# Altium schematic symbol library IntCircuts.SchLib: 19 symbols
Pins are listed as number, name and electrical type; pins without a type are passive.

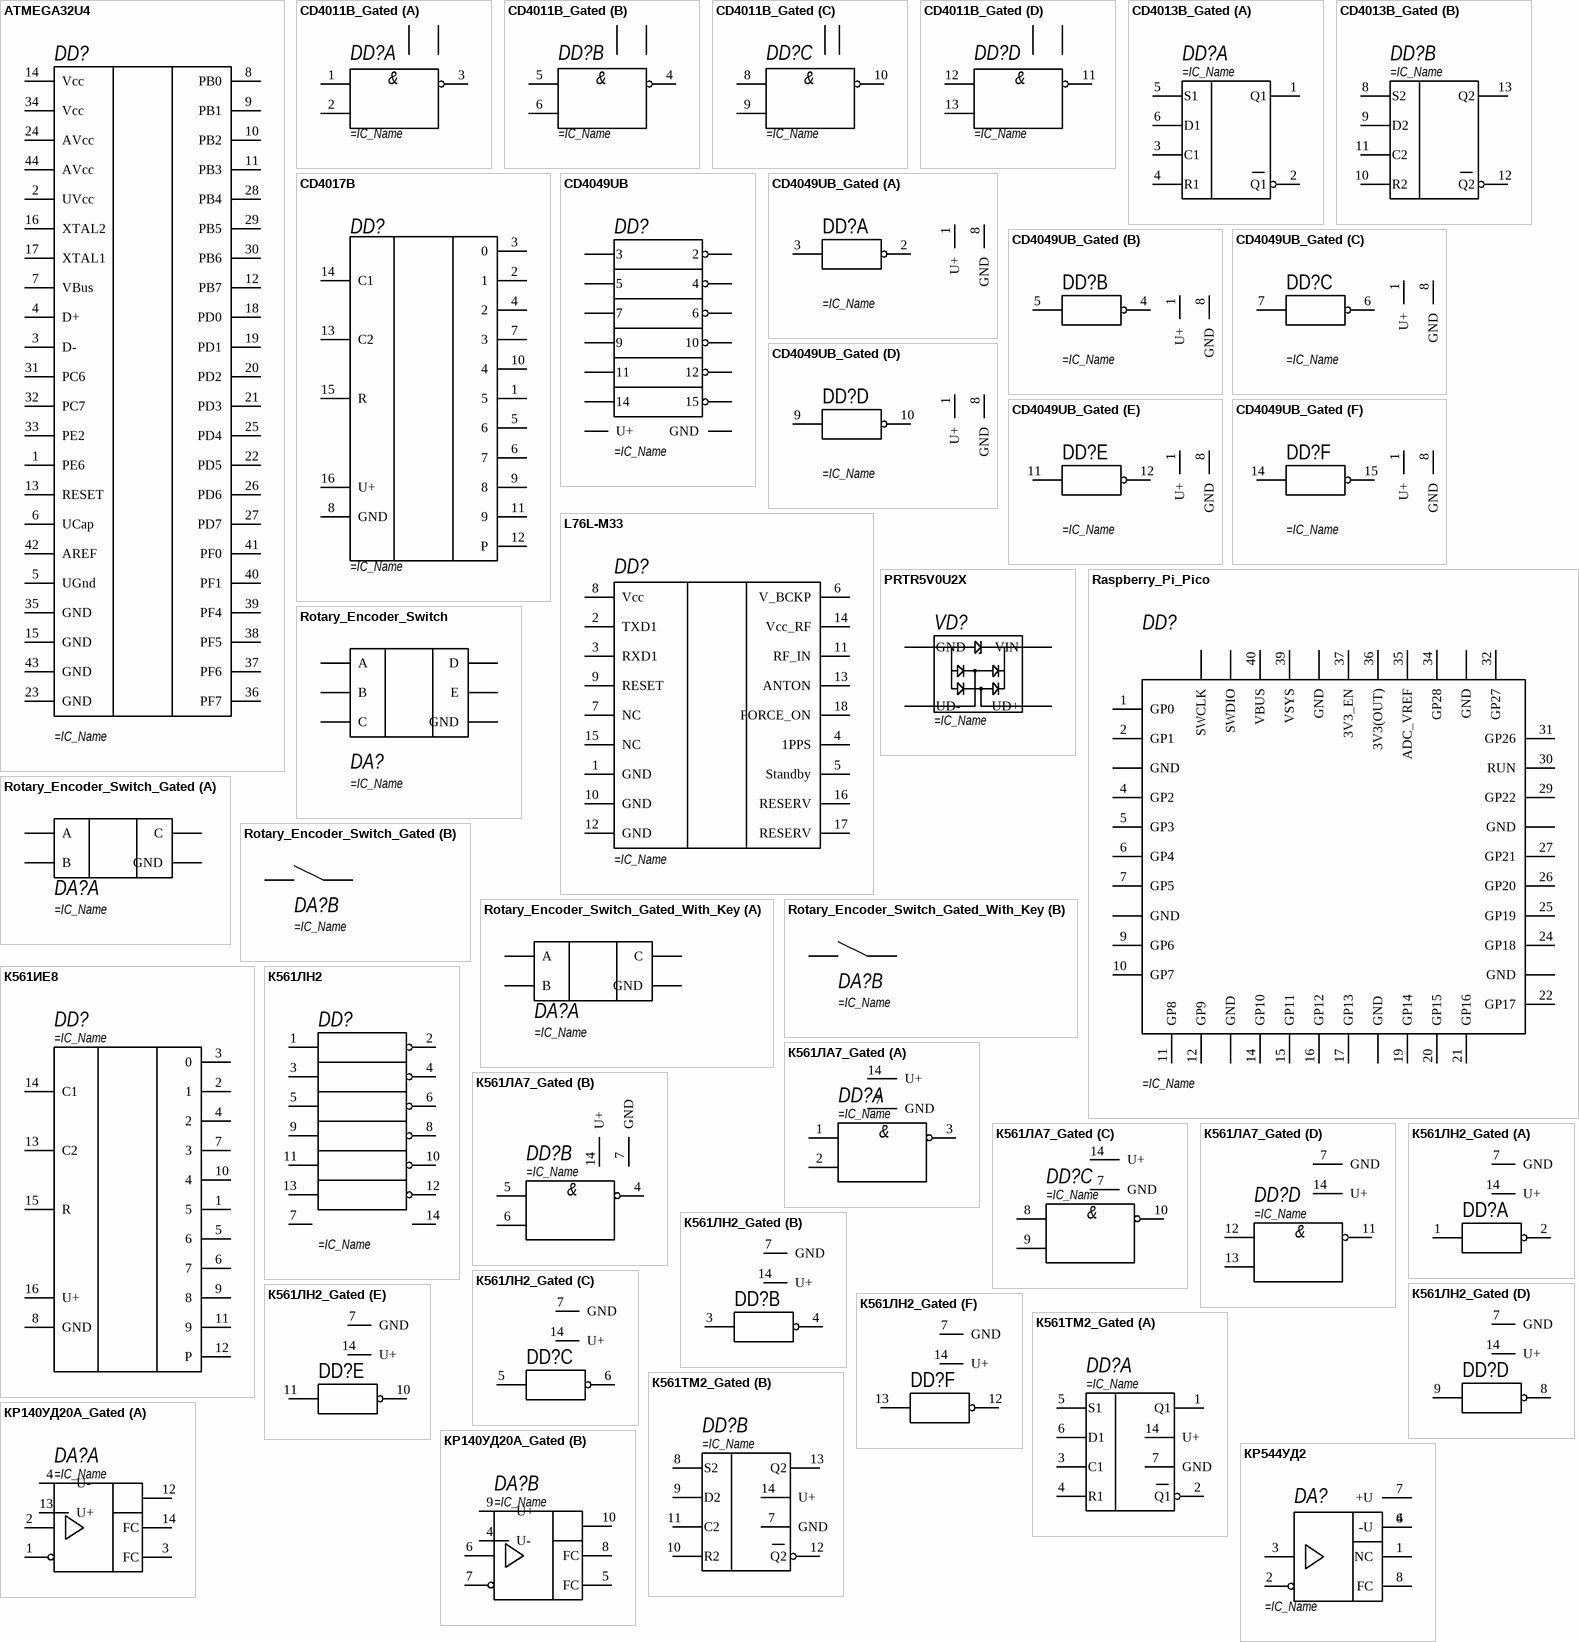
[diagram p0: symbols ATMEGA32U4 to КР544УД2]

## ATMEGA32U4
designator DD?
pins: 1 PE6, 2 UVcc, 3 D-, 4 D+, 5 UGnd, 6 UCap, 7 VBus, 8 PB0, 9 PB1, 10 PB2, 11 PB3, 12 PB7, 13 RESET, 14 Vcc, 15 GND, 16 XTAL2, 17 XTAL1, 18 PD0, 19 PD1, 20 PD2, 21 PD3, 22 PD5, 23 GND, 24 AVcc, 25 PD4, 26 PD6, 27 PD7, 28 PB4, 29 PB5, 30 PB6, 31 PC6, 32 PC7, 33 PE2, 34 Vcc, 35 GND, 36 PF7, 37 PF6, 38 PF5, 39 PF4, 40 PF1, 41 PF0, 42 AREF, 43 GND, 44 AVcc

## CD4011B_Gated
designator DD?
part A pins: 1, 2, 3, 7 GND (power) hidden to GND, 14 U+ (power) hidden to Vdd
part B pins: 4, 5, 6, 7 GND (power) hidden to GND, 14 U+ (power) hidden to Vdd
part C pins: 7 GND (power) hidden to Vdd, 8, 9, 10, 14 U+ (power) hidden to Vdd
part D pins: 7 GND (power) hidden to Vdd, 11, 12, 13, 14 U+ (power) hidden to Vdd
part A text: &
part B text: &
part C text: &
part D text: &

## CD4013B_Gated
designator DD?
part A pins: 1 Q1, 2 Q1, 3 C1, 4 R1, 5 S1, 6 D1, 7 GND (power) hidden to GND, 14 U+ (power) hidden to Vdd
part B pins: 7 GND (power) hidden to GND, 8 S2, 9 D2, 10 R2, 11 C2, 12 Q2, 13 Q2, 14 U+ (power) hidden to Vdd
1 alternate drawing of the same symbol

## CD4017B
designator DD?
pins: 1 5, 2 1, 3 0, 4 2, 5 6, 6 7, 7 3, 8 GND (power) hidden to GND, 9 8, 10 4, 11 9, 12 P, 13 C2, 14 C1, 15 R, 16 U+ (power) hidden to Vdd

## CD4049UB
designator DD?
pins: 1 U+ (power) hidden to Vdd, 2, 3, 4, 5, 6, 7, 8 GND (power) hidden to GND, 9, 10, 11, 12, 14, 15

## CD4049UB_Gated
designator DD?
part A pins: 1 U+ (power) hidden to Vdd, 2, 3, 8 GND (power) hidden to GND
part B pins: 1 U+ (power) hidden to Vdd, 4, 5, 8 GND (power) hidden to GND
part C pins: 1 U+ (power) hidden to Vdd, 6, 7, 8 GND (power) hidden to GND
part D pins: 1 U+ (power) hidden to Vdd, 8 GND (power) hidden to GND, 9, 10
part E pins: 1 U+ (power) hidden to Vdd, 8 GND (power) hidden to GND, 11, 12
part F pins: 1 U+ (power) hidden to Vdd, 8 GND (power) hidden to GND, 14, 15

## L76L-M33
designator DD?
pins: 1 GND, 2 TXD1, 3 RXD1, 4 1PPS, 5 Standby, 6 V_BCKP, 7 NC, 8 Vcc, 9 RESET, 10 GND, 11 RF_IN, 12 GND, 13 ANTON, 14 Vcc_RF, 15 NC, 16 RESERV, 17 RESERV, 18 FORCE_ON

## PRTR5V0U2X
designator VD?
pins: 1 GND, 2 UD-, 3 UD+, 4 VIN

## Raspberry_Pi_Pico
designator DD?
pins: 1 GP0, 2 GP1, 4 GP2, 5 GP3, 6 GP4, 7 GP5, 9 GP6, 10 GP7, 11 GP8, 12 GP9, 14 GP10, 15 GP11, 16 GP12, 17 GP13, 19 GP14, 20 GP15, 21 GP16, 22 GP17, 24 GP18, 25 GP19, 26 GP20, 27 GP21, 29 GP22, 30 RUN, 31 GP26, 32 GP27, 34 GP28, 35 ADC_VREF, 36 3V3(OUT), 37 3V3_EN, 39 VSYS, 40 VBUS, GND, GND, GND, GND, GND, GND, GND, GND, SWCLK, SWDIO

## Rotary_Encoder_Switch
designator DA?
pins: 1 A, 2 B, 3 C, 4 D, 5 E, GND

## Rotary_Encoder_Switch_Gated
designator DA?
part A pins: 1 A, 2 B, 3 C, GND
part B pins: 4 D, 5 E

## Rotary_Encoder_Switch_Gated_With_Key
designator DA?
part A pins: 1 A, 2 B, 3 C, GND
part B pins: 4 D, 5 E

## К561ИЕ8
designator DD?
pins: 1 5, 2 1, 3 0, 4 2, 5 6, 6 7, 7 3, 8 GND (power) hidden to GND, 9 8, 10 4, 11 9, 12 P, 13 C2, 14 C1, 15 R, 16 U+ (power) hidden to Vdd

## К561ЛH2
designator DD?
pins: 1, 2, 3, 4, 5, 6, 7 GND (power) hidden to GND, 8, 9, 10, 11, 12, 13, 14 U+ (power) hidden to Vdd

## К561ЛА7_Gated
designator DD?
part A pins: 1, 2, 3, 7 GND (power) hidden to GND, 14 U+ (power) hidden to Vdd
part B pins: 4, 5, 6, 7 GND (power) hidden to GND, 14 U+ (power) hidden to Vdd
part C pins: 7 GND (power) hidden to GND, 8, 9, 10, 14 U+ (power) hidden to Vdd
part D pins: 7 GND (power) hidden to GND, 11, 12, 13, 14 U+ (power) hidden to Vdd
part A text: &
part B text: &
part C text: &
part D text: &

## К561ЛН2_Gated
designator DD?
part A pins: 1, 2, 7 GND (power) hidden to GND, 14 U+ (power) hidden to Vdd
part B pins: 3, 4, 7 GND (power) hidden to GND, 14 U+ (power) hidden to Vdd
part C pins: 5, 6, 7 GND (power) hidden to GND, 14 U+ (power) hidden to Vdd
part D pins: 7 GND (power) hidden to GND, 8, 9, 14 U+ (power) hidden to Vdd
part E pins: 7 GND (power) hidden to GND, 10, 11, 14 U+ (power) hidden to Vdd
part F pins: 7 GND (power) hidden to GND, 12, 13, 14 U+ (power) hidden to Vdd

## К561ТМ2_Gated
designator DD?
part A pins: 1 Q1, 2 Q1, 3 C1, 4 R1, 5 S1, 6 D1, 7 GND (power) hidden to GND, 14 U+ (power) hidden to Vdd
part B pins: 7 GND (power) hidden to GND, 8 S2, 9 D2, 10 R2, 11 C2, 12 Q2, 13 Q2, 14 U+ (power) hidden to Vdd
1 alternate drawing of the same symbol

## КР140УД20А_Gated
designator DA?
part A pins: 1, 2, 3 FC, 4 U- (power) hidden to GND, 12, 13 U+ (power) hidden to Vdd, 14 FC
part B pins: 4 U- (power) hidden to GND, 5 FC, 6, 7, 8 FC, 9 U+ (power) hidden to Vdd, 10
1 alternate drawing of the same symbol

## КР544УД2
designator DA?
pins: 1 NC, 2, 3, 4 -U (power) hidden to GND, 6, 7 +U (power) hidden to Vdd, 8 FC